# EAGLE library part 74*125 (library adafruit)
Quad bus BUFFER, 3-state
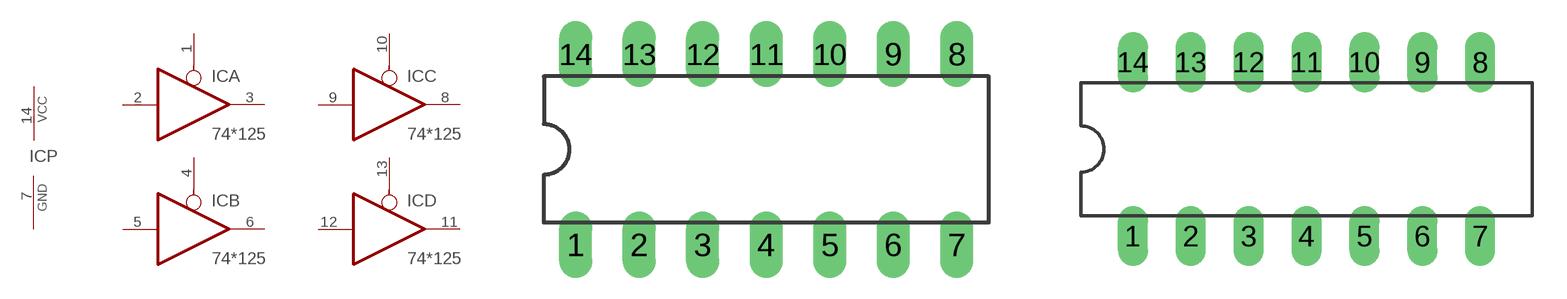
[diagram p27: symbol with the pads of DIL14; footprints DIL14, DIL14-LARDO]

Designator prefix IC; gates A=74125 B=74125 C=74125 D=74125 P=PWRN

## 74125N, 74LS125N  [DIL14]
1  A:OE  in
2  A:I  in
3  A:O  hiz
4  B:OE  in
5  B:I  in
6  B:O  hiz
7  P:GND  pwr
8  C:O  hiz
9  C:I  in
10  C:OE  in
11  D:O  hiz
12  D:I  in
13  D:OE  in
14  P:VCC  pwr

## 74125N-LARDO  [DIL14-LARDO]
Pads as for DIL14

## Footprint DIL14 (pad centres in mm)
Dual In Line Package
drill 0.813 long: 1 -7.62,-3.81; 2 -5.08,-3.81; 3 -2.54,-3.81; 4 0,-3.81; 5 2.54,-3.81; 6 5.08,-3.81; 7 7.62,-3.81; 8 7.62,3.81; 9 5.08,3.81; 10 2.54,3.81; 11 0,3.81; 12 -2.54,3.81; 13 -5.08,3.81; 14 -7.62,3.81

## Footprint DIL14-LARDO (pad centres in mm)
drill 0.813 long: 1 -7.62,-3.81; 2 -5.08,-3.81; 3 -2.54,-3.81; 4 0,-3.81; 5 2.54,-3.81; 6 5.08,-3.81; 7 7.62,-3.81; 8 7.62,3.81; 9 5.08,3.81; 10 2.54,3.81; 11 0,3.81; 12 -2.54,3.81; 13 -5.08,3.81; 14 -7.62,3.81